# Altium schematic symbol library MCU_Intel.SchLib: 26 symbols
Pins are listed as number, name and electrical type; pins without a type are passive.

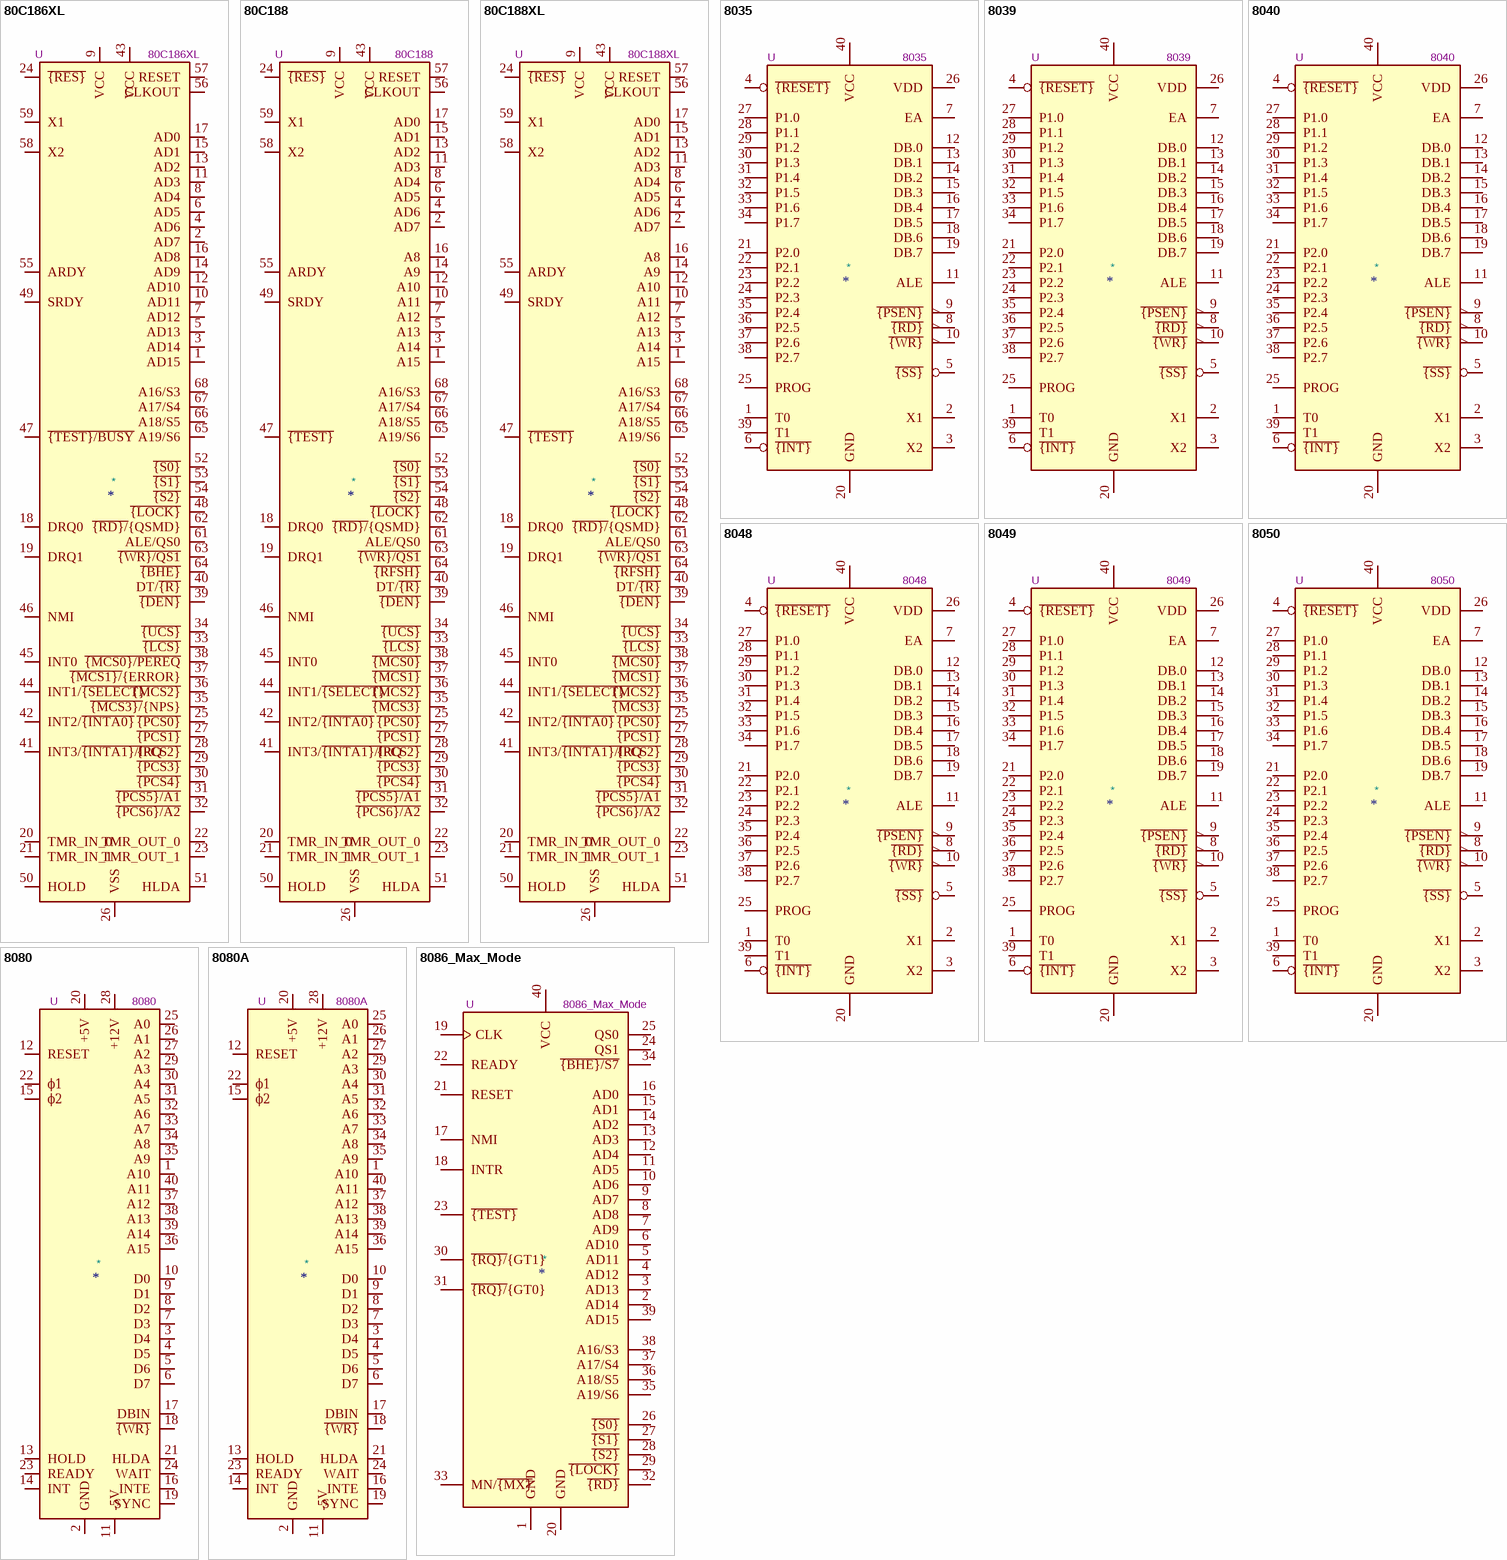
[diagram p0: symbols 80C186XL to 8086_Max_Mode]

## 80C186XL
designator *  value 80C186XL  Reference: U
ki_keywords: MPRO; ki_description: 16-Bit High-Integration Embedded Processor; ki_fp_filters: PLCC* PGA*Layout11x11*P2.54mm* LCC*; Datasheet: http://datasheets.chipdb.org/Intel/x86/8018x/datashts/27243104.PDF
pins: 1 AD15, 2 AD7, 3 AD14, 4 AD6, 5 AD13, 6 AD5, 7 AD12, 8 AD4, 9 VCC, 10 AD11, 11 AD3, 12 AD10, 13 AD2, 14 AD9, 15 AD1, 16 AD8, 17 AD0, 18 DRQ0, 19 DRQ1, 20 TMR_IN_0, 21 TMR_IN_1, 22 TMR_OUT_0, 23 TMR_OUT_1, 24 ~{{RES}}, 25 ~{{PCS0}}, 26 VSS, 27 ~{{PCS1}}, 28 ~{{PCS2}}, 29 ~{{PCS3}}, 30 ~{{PCS4}}, 31 ~{{PCS5}/A1}, 32 ~{{PCS6}/A2}, 33 ~{{LCS}}, 34 ~{{UCS}}, 35 ~{{MCS3}/}{NPS}, 36 ~{{MCS2}}, 37 ~{{MCS1}/}{ERROR}, 38 ~{{MCS0}/PEREQ}, 39 ~{{DEN}}, 40 DT/~{{R}}, 41 INT3/~{{INTA1}/IRQ}, 42 INT2/~{{INTA0}}, 43 VCC, 44 INT1/~{{SELECT}}, 45 INT0, 46 NMI, 47 ~{{TEST}/BUSY}, 48 ~{{LOCK}}, 49 SRDY, 50 HOLD, 51 HLDA, 52 ~{{S0}}, 53 ~{{S1}}, 54 ~{{S2}}, 55 ARDY, 56 CLKOUT, 57 RESET, 58 X2, 59 X1, 60 VSS hidden, 61 ALE/QS0, 62 ~{{RD}/}{QSMD}, 63 ~{{WR}/QS1}, 64 ~{{BHE}}, 65 A19/S6, 66 A18/S5, 67 A17/S4, 68 A16/S3

## 80C188
designator *  value 80C188  Reference: U
ki_keywords: MPRO; ki_description: CHMOS High-Integration 16-Bit Microprocessor; ki_fp_filters: PLCC* PGA*Layout11x11*P2.54mm* LCC*; Datasheet: http://datasheets.chipdb.org/Intel/x86/8018x/datashts/80188/intel-80c188.pdf
pins: 1 A15, 2 AD7, 3 A14, 4 AD6, 5 A13, 6 AD5, 7 A12, 8 AD4, 9 VCC, 10 A11, 11 AD3, 12 A10, 13 AD2, 14 A9, 15 AD1, 16 A8, 17 AD0, 18 DRQ0, 19 DRQ1, 20 TMR_IN_0, 21 TMR_IN_1, 22 TMR_OUT_0, 23 TMR_OUT_1, 24 ~{{RES}}, 25 ~{{PCS0}}, 26 VSS, 27 ~{{PCS1}}, 28 ~{{PCS2}}, 29 ~{{PCS3}}, 30 ~{{PCS4}}, 31 ~{{PCS5}/A1}, 32 ~{{PCS6}/A2}, 33 ~{{LCS}}, 34 ~{{UCS}}, 35 ~{{MCS3}}, 36 ~{{MCS2}}, 37 ~{{MCS1}}, 38 ~{{MCS0}}, 39 ~{{DEN}}, 40 DT/~{{R}}, 41 INT3/~{{INTA1}/IRQ}, 42 INT2/~{{INTA0}}, 43 VCC, 44 INT1/~{{SELECT}}, 45 INT0, 46 NMI, 47 ~{{TEST}}, 48 ~{{LOCK}}, 49 SRDY, 50 HOLD, 51 HLDA, 52 ~{{S0}}, 53 ~{{S1}}, 54 ~{{S2}}, 55 ARDY, 56 CLKOUT, 57 RESET, 58 X2, 59 X1, 60 VSS hidden, 61 ALE/QS0, 62 ~{{RD}/}{QSMD}, 63 ~{{WR}/QS1}, 64 ~{{RFSH}}, 65 A19/S6, 66 A18/S5, 67 A17/S4, 68 A16/S3

## 80C188XL
designator *  value 80C188XL  Reference: U
ki_keywords: MPRO; ki_description: 16-Bit High-Integration Embedded Processor; ki_fp_filters: PLCC* PGA*Layout11x11*P2.54mm* LCC*; Datasheet: http://datasheets.chipdb.org/Intel/x86/8018x/datashts/27243104.PDF
pins: 1 A15, 2 AD7, 3 A14, 4 AD6, 5 A13, 6 AD5, 7 A12, 8 AD4, 9 VCC, 10 A11, 11 AD3, 12 A10, 13 AD2, 14 A9, 15 AD1, 16 A8, 17 AD0, 18 DRQ0, 19 DRQ1, 20 TMR_IN_0, 21 TMR_IN_1, 22 TMR_OUT_0, 23 TMR_OUT_1, 24 ~{{RES}}, 25 ~{{PCS0}}, 26 VSS, 27 ~{{PCS1}}, 28 ~{{PCS2}}, 29 ~{{PCS3}}, 30 ~{{PCS4}}, 31 ~{{PCS5}/A1}, 32 ~{{PCS6}/A2}, 33 ~{{LCS}}, 34 ~{{UCS}}, 35 ~{{MCS3}}, 36 ~{{MCS2}}, 37 ~{{MCS1}}, 38 ~{{MCS0}}, 39 ~{{DEN}}, 40 DT/~{{R}}, 41 INT3/~{{INTA1}/IRQ}, 42 INT2/~{{INTA0}}, 43 VCC, 44 INT1/~{{SELECT}}, 45 INT0, 46 NMI, 47 ~{{TEST}}, 48 ~{{LOCK}}, 49 SRDY, 50 HOLD, 51 HLDA, 52 ~{{S0}}, 53 ~{{S1}}, 54 ~{{S2}}, 55 ARDY, 56 CLKOUT, 57 RESET, 58 X2, 59 X1, 60 VSS hidden, 61 ALE/QS0, 62 ~{{RD}/}{QSMD}, 63 ~{{WR}/QS1}, 64 ~{{RFSH}}, 65 A19/S6, 66 A18/S5, 67 A17/S4, 68 A16/S3

## 8035
designator *  value 8035  Reference: U
ki_keywords: MCS-48 uC Microcontroller; ki_description: MCS-48 8-bit Microcontroller, No (EP)ROM, 64B RAM, DIP-40; ki_fp_filters: DIP* PDIP*
pins: 1 T0, 2 X1, 3 X2, 4 ~{{RESET}}, 5 ~{{SS}}, 6 ~{{INT}}, 7 EA, 8 ~{{RD}}, 9 ~{{PSEN}}, 10 ~{{WR}}, 11 ALE, 12 DB.0, 13 DB.1, 14 DB.2, 15 DB.3, 16 DB.4, 17 DB.5, 18 DB.6, 19 DB.7, 20 GND, 21 P2.0, 22 P2.1, 23 P2.2, 24 P2.3, 25 PROG, 26 VDD, 27 P1.0, 28 P1.1, 29 P1.2, 30 P1.3, 31 P1.4, 32 P1.5, 33 P1.6, 34 P1.7, 35 P2.4, 36 P2.5, 37 P2.6, 38 P2.7, 39 T1, 40 VCC

## 8039
designator *  value 8039  Reference: U
ki_keywords: MCS-48 uC Microcontroller; ki_description: MCS-48 8-bit Microcontroller, No (EP)ROM, 128B RAM, DIP-40; ki_fp_filters: DIP* PDIP*
pins: 1 T0, 2 X1, 3 X2, 4 ~{{RESET}}, 5 ~{{SS}}, 6 ~{{INT}}, 7 EA, 8 ~{{RD}}, 9 ~{{PSEN}}, 10 ~{{WR}}, 11 ALE, 12 DB.0, 13 DB.1, 14 DB.2, 15 DB.3, 16 DB.4, 17 DB.5, 18 DB.6, 19 DB.7, 20 GND, 21 P2.0, 22 P2.1, 23 P2.2, 24 P2.3, 25 PROG, 26 VDD, 27 P1.0, 28 P1.1, 29 P1.2, 30 P1.3, 31 P1.4, 32 P1.5, 33 P1.6, 34 P1.7, 35 P2.4, 36 P2.5, 37 P2.6, 38 P2.7, 39 T1, 40 VCC

## 8040
designator *  value 8040  Reference: U
ki_keywords: MCS-48 uC Microcontroller; ki_description: MCS-48 8-bit Microcontroller, No (EP)ROM, 256B RAM, DIP-40; ki_fp_filters: DIP* PDIP*
pins: 1 T0, 2 X1, 3 X2, 4 ~{{RESET}}, 5 ~{{SS}}, 6 ~{{INT}}, 7 EA, 8 ~{{RD}}, 9 ~{{PSEN}}, 10 ~{{WR}}, 11 ALE, 12 DB.0, 13 DB.1, 14 DB.2, 15 DB.3, 16 DB.4, 17 DB.5, 18 DB.6, 19 DB.7, 20 GND, 21 P2.0, 22 P2.1, 23 P2.2, 24 P2.3, 25 PROG, 26 VDD, 27 P1.0, 28 P1.1, 29 P1.2, 30 P1.3, 31 P1.4, 32 P1.5, 33 P1.6, 34 P1.7, 35 P2.4, 36 P2.5, 37 P2.6, 38 P2.7, 39 T1, 40 VCC

## 8048
designator *  value 8048  Reference: U
ki_keywords: MCS-48 uC Microcontroller; ki_description: MCS-48 8-bit Microcontroller, 1KB Mask ROM, 64B RAM, DIP-40; ki_fp_filters: DIP* PDIP*
pins: 1 T0, 2 X1, 3 X2, 4 ~{{RESET}}, 5 ~{{SS}}, 6 ~{{INT}}, 7 EA, 8 ~{{RD}}, 9 ~{{PSEN}}, 10 ~{{WR}}, 11 ALE, 12 DB.0, 13 DB.1, 14 DB.2, 15 DB.3, 16 DB.4, 17 DB.5, 18 DB.6, 19 DB.7, 20 GND, 21 P2.0, 22 P2.1, 23 P2.2, 24 P2.3, 25 PROG, 26 VDD, 27 P1.0, 28 P1.1, 29 P1.2, 30 P1.3, 31 P1.4, 32 P1.5, 33 P1.6, 34 P1.7, 35 P2.4, 36 P2.5, 37 P2.6, 38 P2.7, 39 T1, 40 VCC

## 8049
designator *  value 8049  Reference: U
ki_keywords: MCS-48 uC Microcontroller; ki_description: MCS-48 8-bit Microcontroller, 2KB Mask ROM, 128B RAM, DIP-40; ki_fp_filters: DIP* PDIP*
pins: 1 T0, 2 X1, 3 X2, 4 ~{{RESET}}, 5 ~{{SS}}, 6 ~{{INT}}, 7 EA, 8 ~{{RD}}, 9 ~{{PSEN}}, 10 ~{{WR}}, 11 ALE, 12 DB.0, 13 DB.1, 14 DB.2, 15 DB.3, 16 DB.4, 17 DB.5, 18 DB.6, 19 DB.7, 20 GND, 21 P2.0, 22 P2.1, 23 P2.2, 24 P2.3, 25 PROG, 26 VDD, 27 P1.0, 28 P1.1, 29 P1.2, 30 P1.3, 31 P1.4, 32 P1.5, 33 P1.6, 34 P1.7, 35 P2.4, 36 P2.5, 37 P2.6, 38 P2.7, 39 T1, 40 VCC

## 8050
designator *  value 8050  Reference: U
ki_keywords: MCS-48 uC Microcontroller; ki_description: MCS-48 8-bit Microcontroller, 4KB Mask ROM, 256B RAM, DIP-40; ki_fp_filters: DIP* PDIP*
pins: 1 T0, 2 X1, 3 X2, 4 ~{{RESET}}, 5 ~{{SS}}, 6 ~{{INT}}, 7 EA, 8 ~{{RD}}, 9 ~{{PSEN}}, 10 ~{{WR}}, 11 ALE, 12 DB.0, 13 DB.1, 14 DB.2, 15 DB.3, 16 DB.4, 17 DB.5, 18 DB.6, 19 DB.7, 20 GND, 21 P2.0, 22 P2.1, 23 P2.2, 24 P2.3, 25 PROG, 26 VDD, 27 P1.0, 28 P1.1, 29 P1.2, 30 P1.3, 31 P1.4, 32 P1.5, 33 P1.6, 34 P1.7, 35 P2.4, 36 P2.5, 37 P2.6, 38 P2.7, 39 T1, 40 VCC

## 8080
designator *  value 8080  Reference: U
ki_keywords: cpu mpu microprocessor; ki_description: 8-bit N-channel Microprocessor, DIP-40; ki_fp_filters: DIP*W15.24*; Footprint: Package_DIP:DIP-40_W15.24mm; Datasheet: http://datasheets.chipdb.org/Intel/MCS-80/intel-8080.pdf
pins: 1 A10, 2 GND, 3 D4, 4 D5, 5 D6, 6 D7, 7 D3, 8 D2, 9 D1, 10 D0, 11 -5V, 12 RESET, 13 HOLD, 14 INT, 15 ϕ2, 16 INTE, 17 DBIN, 18 ~{{WR}}, 19 SYNC, 20 +5V, 21 HLDA, 22 ϕ1, 23 READY, 24 WAIT, 25 A0, 26 A1, 27 A2, 28 +12V, 29 A3, 30 A4, 31 A5, 32 A6, 33 A7, 34 A8, 35 A9, 36 A15, 37 A12, 38 A13, 39 A14, 40 A11

## 8080A
designator *  value 8080A  Reference: U
ki_keywords: cpu mpu microprocessor; ki_description: 8-bit N-channel Microprocessor, DIP-40; ki_fp_filters: DIP*W15.24*; Footprint: Package_DIP:DIP-40_W15.24mm; Datasheet: http://datasheets.chipdb.org/Intel/MCS-80/intel-8080.pdf
pins: 1 A10, 2 GND, 3 D4, 4 D5, 5 D6, 6 D7, 7 D3, 8 D2, 9 D1, 10 D0, 11 -5V, 12 RESET, 13 HOLD, 14 INT, 15 ϕ2, 16 INTE, 17 DBIN, 18 ~{{WR}}, 19 SYNC, 20 +5V, 21 HLDA, 22 ϕ1, 23 READY, 24 WAIT, 25 A0, 26 A1, 27 A2, 28 +12V, 29 A3, 30 A4, 31 A5, 32 A6, 33 A7, 34 A8, 35 A9, 36 A15, 37 A12, 38 A13, 39 A14, 40 A11

## 8086_Max_Mode
designator *  value 8086_Max_Mode  Reference: U
ki_keywords: MPRO; ki_description: 8086 (maximum mode), 16-Bit HMOS Microprocessor, PDIP-40; ki_fp_filters: DIP*W15.24mm*; Footprint: Package_DIP:DIP-40_W15.24mm; Datasheet: http://datasheets.chipdb.org/Intel/x86/808x/datashts/8086/231455-006.pdf
pins: 1 GND, 2 AD14, 3 AD13, 4 AD12, 5 AD11, 6 AD10, 7 AD9, 8 AD8, 9 AD7, 10 AD6, 11 AD5, 12 AD4, 13 AD3, 14 AD2, 15 AD1, 16 AD0, 17 NMI, 18 INTR, 19 CLK, 20 GND, 21 RESET, 22 READY, 23 ~{{TEST}}, 24 QS1, 25 QS0, 26 ~{{S0}}, 27 ~{{S1}}, 28 ~{{S2}}, 29 ~{{LOCK}}, 30 ~{{RQ}/}{GT1}, 31 ~{{RQ}/}{GT0}, 32 ~{{RD}}, 33 MN/~{{MX}}, 34 ~{{BHE}/S7}, 35 A19/S6, 36 A18/S5, 37 A17/S4, 38 A16/S3, 39 AD15, 40 VCC

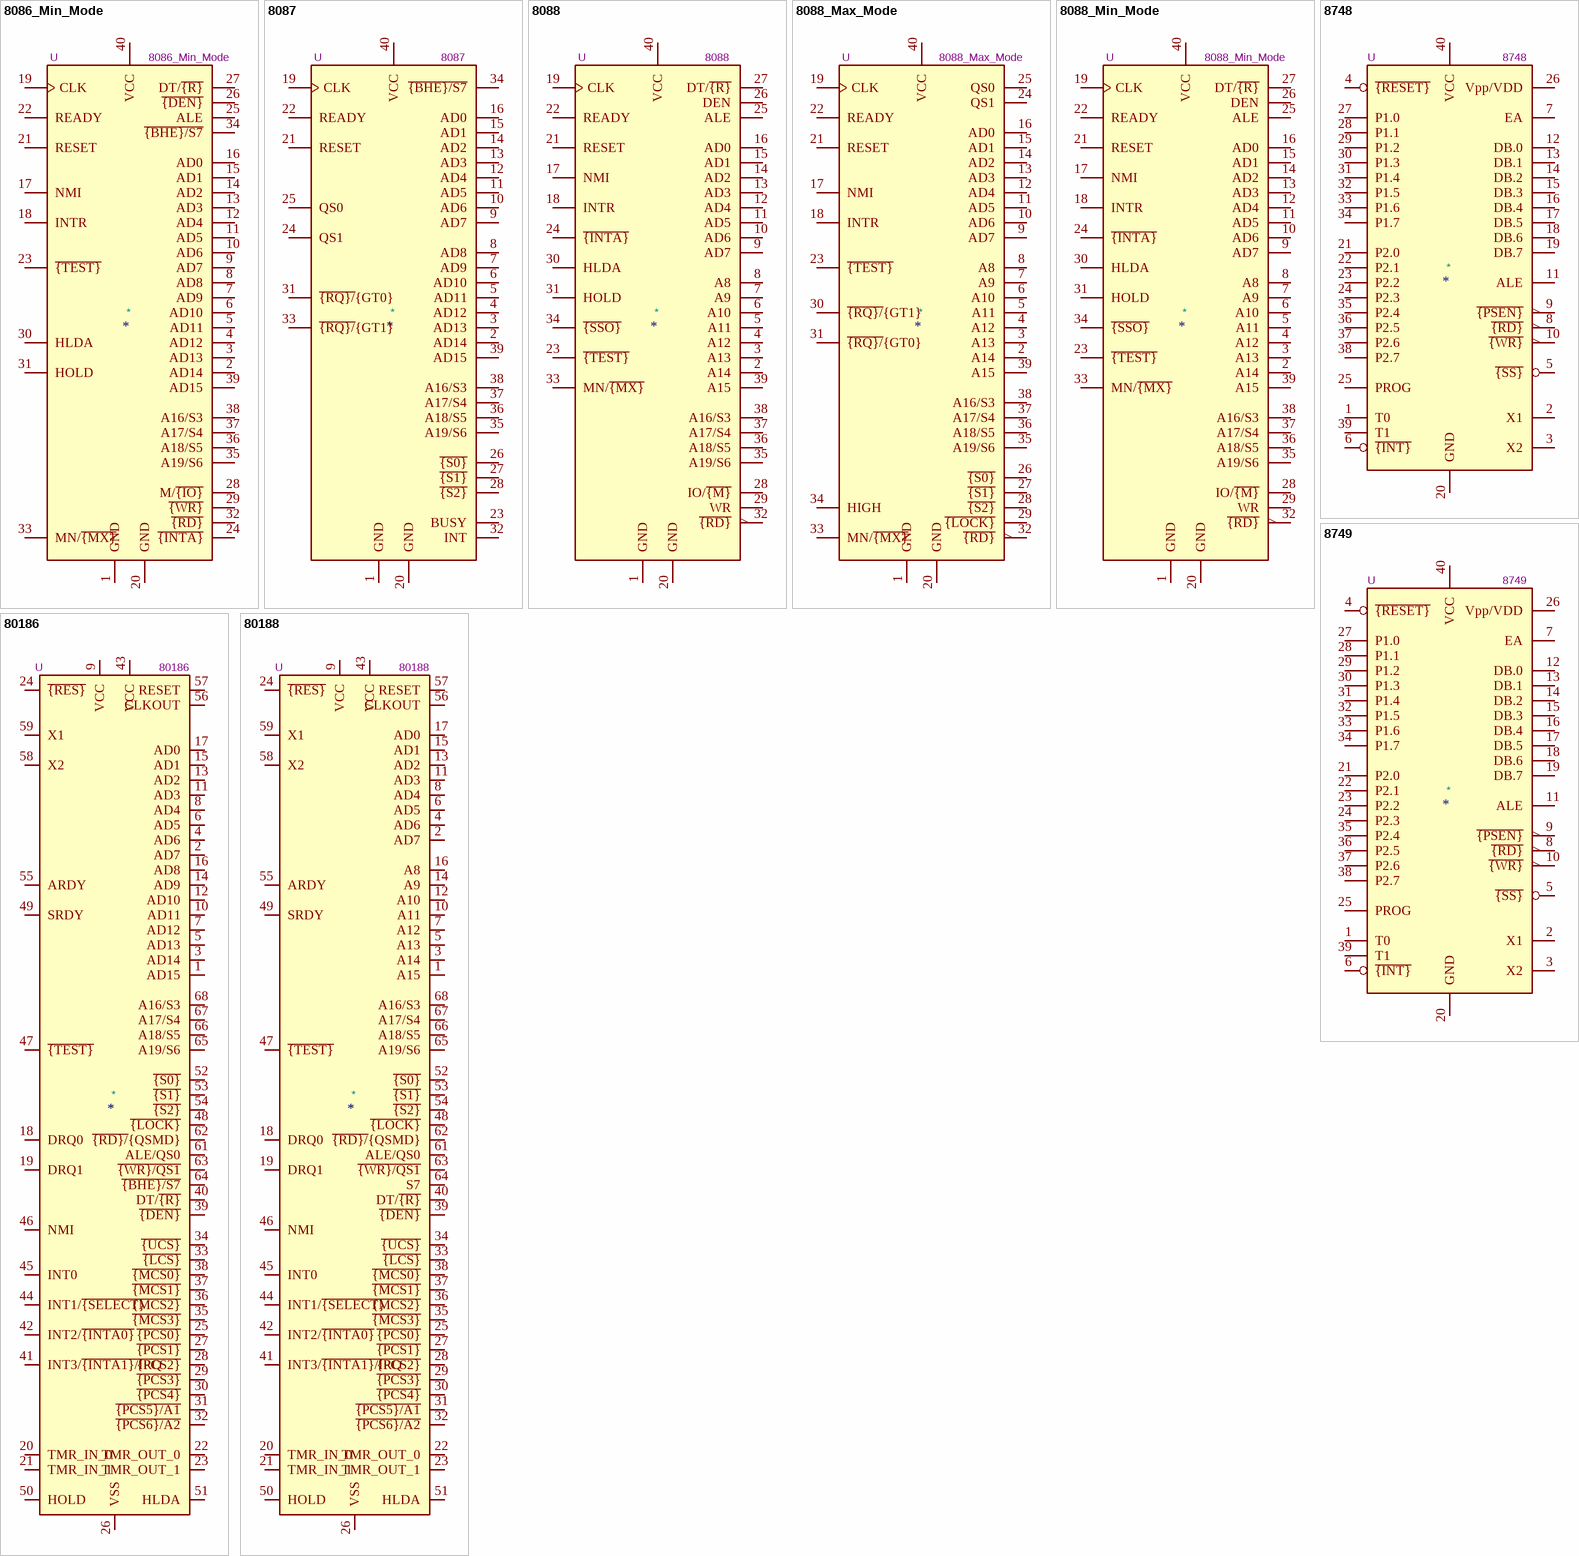
[diagram p1: symbols 8086_Min_Mode to 80188]

## 8086_Min_Mode
designator *  value 8086_Min_Mode  Reference: U
ki_keywords: MPRO; ki_description: 8086 (minimum mode), 16-Bit HMOS Microprocessor, PDIP-40; ki_fp_filters: DIP*W15.24mm*; Footprint: Package_DIP:DIP-40_W15.24mm; Datasheet: http://datasheets.chipdb.org/Intel/x86/808x/datashts/8086/231455-006.pdf
pins: 1 GND, 2 AD14, 3 AD13, 4 AD12, 5 AD11, 6 AD10, 7 AD9, 8 AD8, 9 AD7, 10 AD6, 11 AD5, 12 AD4, 13 AD3, 14 AD2, 15 AD1, 16 AD0, 17 NMI, 18 INTR, 19 CLK, 20 GND, 21 RESET, 22 READY, 23 ~{{TEST}}, 24 ~{{INTA}}, 25 ALE, 26 ~{{DEN}}, 27 DT/~{{R}}, 28 M/~{{IO}}, 29 ~{{WR}}, 30 HLDA, 31 HOLD, 32 ~{{RD}}, 33 MN/~{{MX}}, 34 ~{{BHE}/S7}, 35 A19/S6, 36 A18/S5, 37 A17/S4, 38 A16/S3, 39 AD15, 40 VCC

## 8087
designator *  value 8087  Reference: U
ki_keywords: FPU; ki_description: Math Coprocessor for Intel 8086/8088/80186/80188 microprocessors, PDIP-40; ki_fp_filters: DIP*W15.24mm*; Footprint: Package_DIP:DIP-40_W15.24mm; Datasheet: http://datasheets.chipdb.org/Intel/x86/808x/datashts/8087/205835-007.pdf
pins: 1 GND, 2 AD14, 3 AD13, 4 AD12, 5 AD11, 6 AD10, 7 AD9, 8 AD8, 9 AD7, 10 AD6, 11 AD5, 12 AD4, 13 AD3, 14 AD2, 15 AD1, 16 AD0, 17 NC hidden, 18 NC hidden, 19 CLK, 20 GND, 21 RESET, 22 READY, 23 BUSY, 24 QS1, 25 QS0, 26 ~{{S0}}, 27 ~{{S1}}, 28 ~{{S2}}, 29 NC hidden, 30 NC hidden, 31 ~{{RQ}/}{GT0}, 32 INT, 33 ~{{RQ}/}{GT1}, 34 ~{{BHE}/S7}, 35 A19/S6, 36 A18/S5, 37 A17/S4, 38 A16/S3, 39 AD15, 40 VCC

## 8088
designator *  value 8088  Reference: U
ki_keywords: MPRO; ki_description: 8088 (minimum mode), 8-Bit HMOS Microprocessor, PDIP-40; ki_fp_filters: DIP*W15.24mm*; Footprint: Package_DIP:DIP-40_W15.24mm; Datasheet: http://datasheets.chipdb.org/Intel/x86/808x/datashts/8088/231456-006.pdf
pins: 1 GND, 2 A14, 3 A13, 4 A12, 5 A11, 6 A10, 7 A9, 8 A8, 9 AD7, 10 AD6, 11 AD5, 12 AD4, 13 AD3, 14 AD2, 15 AD1, 16 AD0, 17 NMI, 18 INTR, 19 CLK, 20 GND, 21 RESET, 22 READY, 23 ~{{TEST}}, 24 ~{{INTA}}, 25 ALE, 26 DEN, 27 DT/~{{R}}, 28 IO/~{{M}}, 29 WR, 30 HLDA, 31 HOLD, 32 ~{{RD}}, 33 MN/~{{MX}}, 34 ~{{SSO}}, 35 A19/S6, 36 A18/S5, 37 A17/S4, 38 A16/S3, 39 A15, 40 VCC

## 8088_Max_Mode
designator *  value 8088_Max_Mode  Reference: U
ki_keywords: MPRO; ki_description: 8088 (maximum mode), 8-Bit HMOS Microprocessor, PDIP-40; ki_fp_filters: DIP*W15.24mm*; Footprint: Package_DIP:DIP-40_W15.24mm; Datasheet: http://datasheets.chipdb.org/Intel/x86/808x/datashts/8088/231456-006.pdf
pins: 1 GND, 2 A14, 3 A13, 4 A12, 5 A11, 6 A10, 7 A9, 8 A8, 9 AD7, 10 AD6, 11 AD5, 12 AD4, 13 AD3, 14 AD2, 15 AD1, 16 AD0, 17 NMI, 18 INTR, 19 CLK, 20 GND, 21 RESET, 22 READY, 23 ~{{TEST}}, 24 QS1, 25 QS0, 26 ~{{S0}}, 27 ~{{S1}}, 28 ~{{S2}}, 29 ~{{LOCK}}, 30 ~{{RQ}/}{GT1}, 31 ~{{RQ}/}{GT0}, 32 ~{{RD}}, 33 MN/~{{MX}}, 34 HIGH, 35 A19/S6, 36 A18/S5, 37 A17/S4, 38 A16/S3, 39 A15, 40 VCC

## 8088_Min_Mode
designator *  value 8088_Min_Mode  Reference: U
ki_keywords: MPRO; ki_description: 8088 (minimum mode), 8-Bit HMOS Microprocessor, PDIP-40; ki_fp_filters: DIP*W15.24mm*; Footprint: Package_DIP:DIP-40_W15.24mm; Datasheet: http://datasheets.chipdb.org/Intel/x86/808x/datashts/8088/231456-006.pdf
pins: 1 GND, 2 A14, 3 A13, 4 A12, 5 A11, 6 A10, 7 A9, 8 A8, 9 AD7, 10 AD6, 11 AD5, 12 AD4, 13 AD3, 14 AD2, 15 AD1, 16 AD0, 17 NMI, 18 INTR, 19 CLK, 20 GND, 21 RESET, 22 READY, 23 ~{{TEST}}, 24 ~{{INTA}}, 25 ALE, 26 DEN, 27 DT/~{{R}}, 28 IO/~{{M}}, 29 WR, 30 HLDA, 31 HOLD, 32 ~{{RD}}, 33 MN/~{{MX}}, 34 ~{{SSO}}, 35 A19/S6, 36 A18/S5, 37 A17/S4, 38 A16/S3, 39 A15, 40 VCC

## 8748
designator *  value 8748  Reference: U
ki_keywords: MCS-48 uC Microcontroller; ki_description: i8748, MCS-48 8-bit Microcontroller with Internal EPROM, 1KB EPROM, 64B RAM, DIP-40; ki_fp_filters: DIP* PDIP*
pins: 1 T0, 2 X1, 3 X2, 4 ~{{RESET}}, 5 ~{{SS}}, 6 ~{{INT}}, 7 EA, 8 ~{{RD}}, 9 ~{{PSEN}}, 10 ~{{WR}}, 11 ALE, 12 DB.0, 13 DB.1, 14 DB.2, 15 DB.3, 16 DB.4, 17 DB.5, 18 DB.6, 19 DB.7, 20 GND, 21 P2.0, 22 P2.1, 23 P2.2, 24 P2.3, 25 PROG, 26 Vpp/VDD, 27 P1.0, 28 P1.1, 29 P1.2, 30 P1.3, 31 P1.4, 32 P1.5, 33 P1.6, 34 P1.7, 35 P2.4, 36 P2.5, 37 P2.6, 38 P2.7, 39 T1, 40 VCC

## 8749
designator *  value 8749  Reference: U
ki_keywords: MCS-48 uC Microcontroller; ki_description: i8748, MCS-48 8-bit Microcontroller with Internal EPROM, 2KB EPROM, 128B RAM, DIP-40; ki_fp_filters: DIP* PDIP*
pins: 1 T0, 2 X1, 3 X2, 4 ~{{RESET}}, 5 ~{{SS}}, 6 ~{{INT}}, 7 EA, 8 ~{{RD}}, 9 ~{{PSEN}}, 10 ~{{WR}}, 11 ALE, 12 DB.0, 13 DB.1, 14 DB.2, 15 DB.3, 16 DB.4, 17 DB.5, 18 DB.6, 19 DB.7, 20 GND, 21 P2.0, 22 P2.1, 23 P2.2, 24 P2.3, 25 PROG, 26 Vpp/VDD, 27 P1.0, 28 P1.1, 29 P1.2, 30 P1.3, 31 P1.4, 32 P1.5, 33 P1.6, 34 P1.7, 35 P2.4, 36 P2.5, 37 P2.6, 38 P2.7, 39 T1, 40 VCC

## 80186
designator *  value 80186  Reference: U
ki_keywords: MPRO; ki_description: High-Integration 16-Bit Microprocessor; ki_fp_filters: PLCC* PGA*Layout11x11*P2.54mm* LCC*; Datasheet: http://datasheets.chipdb.org/Intel/x86/8018x/datashts/27243002.PDF
pins: 1 AD15, 2 AD7, 3 AD14, 4 AD6, 5 AD13, 6 AD5, 7 AD12, 8 AD4, 9 VCC, 10 AD11, 11 AD3, 12 AD10, 13 AD2, 14 AD9, 15 AD1, 16 AD8, 17 AD0, 18 DRQ0, 19 DRQ1, 20 TMR_IN_0, 21 TMR_IN_1, 22 TMR_OUT_0, 23 TMR_OUT_1, 24 ~{{RES}}, 25 ~{{PCS0}}, 26 VSS, 27 ~{{PCS1}}, 28 ~{{PCS2}}, 29 ~{{PCS3}}, 30 ~{{PCS4}}, 31 ~{{PCS5}/A1}, 32 ~{{PCS6}/A2}, 33 ~{{LCS}}, 34 ~{{UCS}}, 35 ~{{MCS3}}, 36 ~{{MCS2}}, 37 ~{{MCS1}}, 38 ~{{MCS0}}, 39 ~{{DEN}}, 40 DT/~{{R}}, 41 INT3/~{{INTA1}/IRQ}, 42 INT2/~{{INTA0}}, 43 VCC, 44 INT1/~{{SELECT}}, 45 INT0, 46 NMI, 47 ~{{TEST}}, 48 ~{{LOCK}}, 49 SRDY, 50 HOLD, 51 HLDA, 52 ~{{S0}}, 53 ~{{S1}}, 54 ~{{S2}}, 55 ARDY, 56 CLKOUT, 57 RESET, 58 X2, 59 X1, 60 VSS hidden, 61 ALE/QS0, 62 ~{{RD}/}{QSMD}, 63 ~{{WR}/QS1}, 64 ~{{BHE}/S7}, 65 A19/S6, 66 A18/S5, 67 A17/S4, 68 A16/S3

## 80188
designator *  value 80188  Reference: U
ki_keywords: MPRO; ki_description: High-Integration 16-Bit Microprocessor; ki_fp_filters: PLCC* PGA*Layout11x11*P2.54mm* LCC*; Datasheet: http://datasheets.chipdb.org/Intel/x86/8018x/datashts/27243002.PDF
pins: 1 A15, 2 AD7, 3 A14, 4 AD6, 5 A13, 6 AD5, 7 A12, 8 AD4, 9 VCC, 10 A11, 11 AD3, 12 A10, 13 AD2, 14 A9, 15 AD1, 16 A8, 17 AD0, 18 DRQ0, 19 DRQ1, 20 TMR_IN_0, 21 TMR_IN_1, 22 TMR_OUT_0, 23 TMR_OUT_1, 24 ~{{RES}}, 25 ~{{PCS0}}, 26 VSS, 27 ~{{PCS1}}, 28 ~{{PCS2}}, 29 ~{{PCS3}}, 30 ~{{PCS4}}, 31 ~{{PCS5}/A1}, 32 ~{{PCS6}/A2}, 33 ~{{LCS}}, 34 ~{{UCS}}, 35 ~{{MCS3}}, 36 ~{{MCS2}}, 37 ~{{MCS1}}, 38 ~{{MCS0}}, 39 ~{{DEN}}, 40 DT/~{{R}}, 41 INT3/~{{INTA1}/IRQ}, 42 INT2/~{{INTA0}}, 43 VCC, 44 INT1/~{{SELECT}}, 45 INT0, 46 NMI, 47 ~{{TEST}}, 48 ~{{LOCK}}, 49 SRDY, 50 HOLD, 51 HLDA, 52 ~{{S0}}, 53 ~{{S1}}, 54 ~{{S2}}, 55 ARDY, 56 CLKOUT, 57 RESET, 58 X2, 59 X1, 60 VSS hidden, 61 ALE/QS0, 62 ~{{RD}/}{QSMD}, 63 ~{{WR}/QS1}, 64 S7, 65 A19/S6, 66 A18/S5, 67 A17/S4, 68 A16/S3

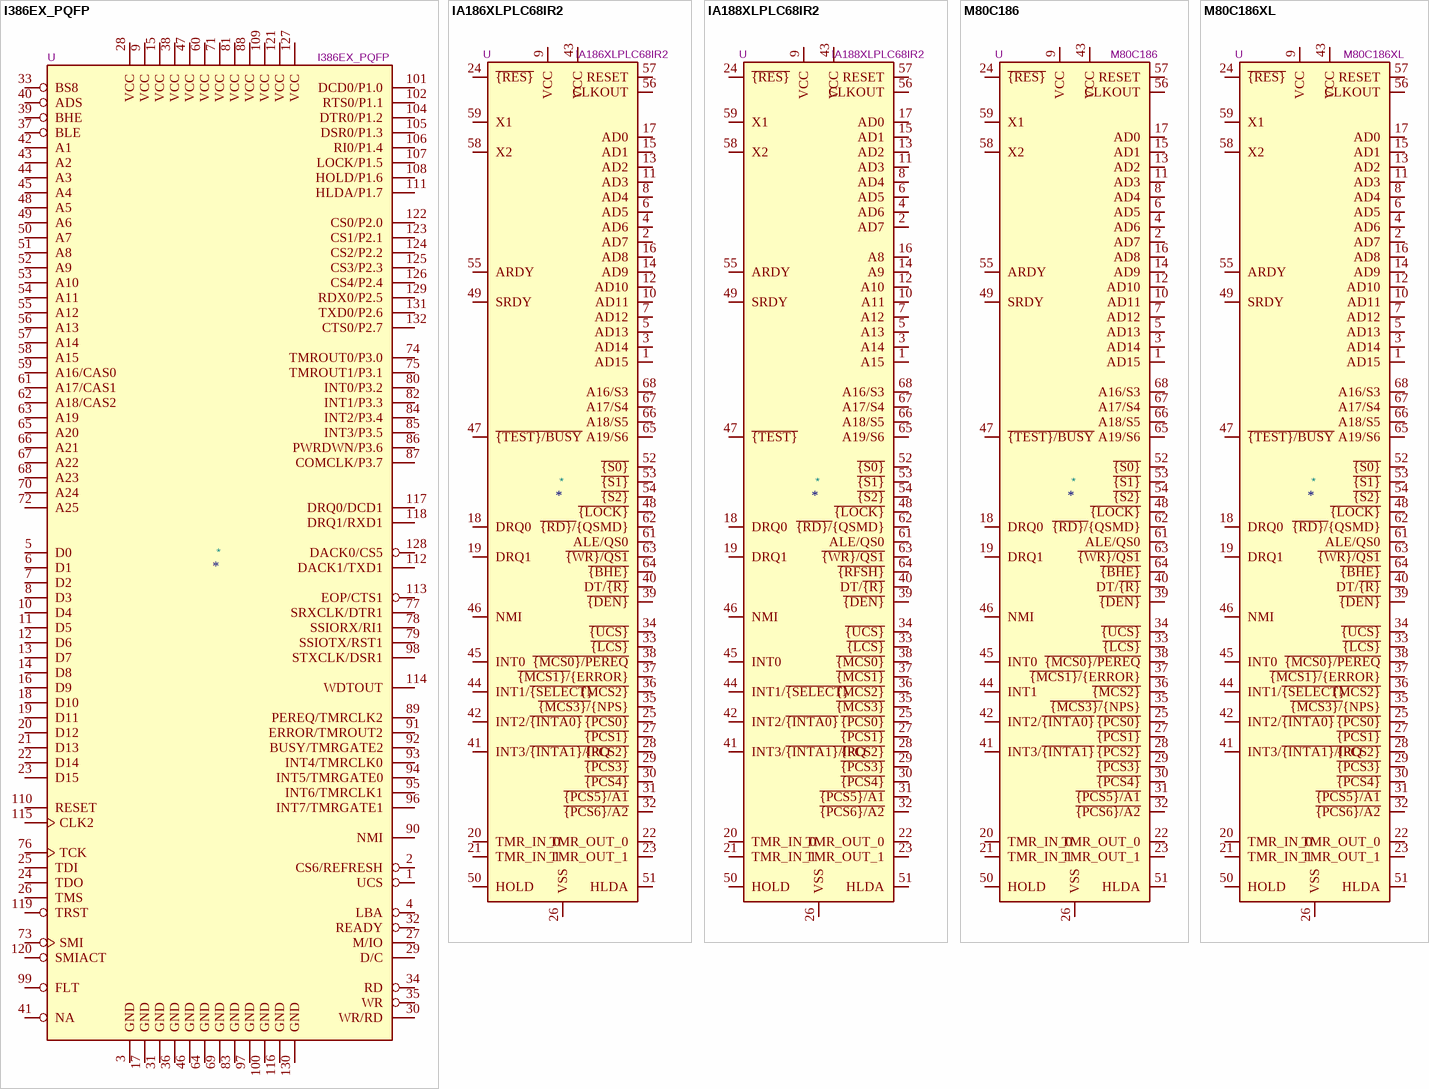
[diagram p2: symbols I386EX_PQFP to M80C186XL]

## I386EX_PQFP
designator *  value I386EX_PQFP  Reference: U
ki_keywords: MPRO; ki_description: Intel I386EX Embedded microprocessor, PQFP-132; ki_fp_filters: PQFP*
pins: 1 UCS, 2 CS6/REFRESH, 3 GND, 4 LBA, 5 D0, 6 D1, 7 D2, 8 D3, 9 VCC, 10 D4, 11 D5, 12 D6, 13 D7, 14 D8, 15 VCC, 16 D9, 17 GND, 18 D10, 19 D11, 20 D12, 21 D13, 22 D14, 23 D15, 24 TDO, 25 TDI, 26 TMS, 27 M/IO, 28 VCC, 29 D/C, 30 WR/RD, 31 GND, 32 READY, 33 BS8, 34 RD, 35 WR, 36 GND, 37 BLE, 38 VCC, 39 BHE, 40 ADS, 41 NA, 42 A1, 43 A2, 44 A3, 45 A4, 46 GND, 47 VCC, 48 A5, 49 A6, 50 A7, 51 A8, 52 A9, 53 A10, 54 A11, 55 A12, 56 A13, 57 A14, 58 A15, 59 A16/CAS0, 60 VCC, 61 A17/CAS1, 62 A18/CAS2, 63 A19, 64 GND, 65 A20, 66 A21, 67 A22, 68 A23, 69 GND, 70 A24, 71 VCC, 72 A25, 73 SMI, 74 TMROUT0/P3.0, 75 TMROUT1/P3.1, 76 TCK, 77 SRXCLK/DTR1, 78 SSIORX/RI1, 79 SSIOTX/RST1, 80 INT0/P3.2, 81 VCC, 82 INT1/P3.3, 83 GND, 84 INT2/P3.4, 85 INT3/P3.5, 86 PWRDWN/P3.6, 87 COMCLK/P3.7, 88 VCC, 89 PEREQ/TMRCLK2, 90 NMI, 91 ERROR/TMROUT2, 92 BUSY/TMRGATE2, 93 INT4/TMRCLK0, 94 INT5/TMRGATE0, 95 INT6/TMRCLK1, 96 INT7/TMRGATE1, 97 GND, 98 STXCLK/DSR1, 99 FLT, 100 GND, 101 DCD0/P1.0, 102 RTS0/P1.1, 104 DTR0/P1.2, 105 DSR0/P1.3, 106 RI0/P1.4, 107 LOCK/P1.5, 108 HOLD/P1.6, 109 VCC, 110 RESET, 111 HLDA/P1.7, 112 DACK1/TXD1, 113 EOP/CTS1, 114 WDTOUT, 115 CLK2, 116 GND, 117 DRQ0/DCD1, 118 DRQ1/RXD1, 119 TRST, 120 SMIACT, 121 VCC, 122 CS0/P2.0, 123 CS1/P2.1, 124 CS2/P2.2, 125 CS3/P2.3, 126 CS4/P2.4, 127 VCC, 128 DACK0/CS5, 129 RDX0/P2.5, 130 GND, 131 TXD0/P2.6, 132 CTS0/P2.7

## IA186XLPLC68IR2
designator *  value IA186XLPLC68IR2  Reference: U
ki_keywords: MPRO; ki_description: MCU Replacement for Intel 80C186XL; ki_fp_filters: PLCC* PGA*Layout11x11*P2.54mm* LCC*; Datasheet: http://www.innovasic.com/upload/products/Innovasic_IA186XL_IA188XL_Data_Sheet_20110706_2.pdf
pins: 1 AD15, 2 AD7, 3 AD14, 4 AD6, 5 AD13, 6 AD5, 7 AD12, 8 AD4, 9 VCC, 10 AD11, 11 AD3, 12 AD10, 13 AD2, 14 AD9, 15 AD1, 16 AD8, 17 AD0, 18 DRQ0, 19 DRQ1, 20 TMR_IN_0, 21 TMR_IN_1, 22 TMR_OUT_0, 23 TMR_OUT_1, 24 ~{{RES}}, 25 ~{{PCS0}}, 26 VSS, 27 ~{{PCS1}}, 28 ~{{PCS2}}, 29 ~{{PCS3}}, 30 ~{{PCS4}}, 31 ~{{PCS5}/A1}, 32 ~{{PCS6}/A2}, 33 ~{{LCS}}, 34 ~{{UCS}}, 35 ~{{MCS3}/}{NPS}, 36 ~{{MCS2}}, 37 ~{{MCS1}/}{ERROR}, 38 ~{{MCS0}/PEREQ}, 39 ~{{DEN}}, 40 DT/~{{R}}, 41 INT3/~{{INTA1}/IRQ}, 42 INT2/~{{INTA0}}, 43 VCC, 44 INT1/~{{SELECT}}, 45 INT0, 46 NMI, 47 ~{{TEST}/BUSY}, 48 ~{{LOCK}}, 49 SRDY, 50 HOLD, 51 HLDA, 52 ~{{S0}}, 53 ~{{S1}}, 54 ~{{S2}}, 55 ARDY, 56 CLKOUT, 57 RESET, 58 X2, 59 X1, 60 VSS hidden, 61 ALE/QS0, 62 ~{{RD}/}{QSMD}, 63 ~{{WR}/QS1}, 64 ~{{BHE}}, 65 A19/S6, 66 A18/S5, 67 A17/S4, 68 A16/S3

## IA188XLPLC68IR2
designator *  value IA188XLPLC68IR2  Reference: U
ki_keywords: MPRO; ki_description: MCU Replacement for Intel 80C188XL; ki_fp_filters: PLCC* PGA*Layout11x11*P2.54mm* LCC*; Datasheet: http://www.innovasic.com/upload/products/Innovasic_IA186XL_IA188XL_Data_Sheet_20110706_2.pdf
pins: 1 A15, 2 AD7, 3 A14, 4 AD6, 5 A13, 6 AD5, 7 A12, 8 AD4, 9 VCC, 10 A11, 11 AD3, 12 A10, 13 AD2, 14 A9, 15 AD1, 16 A8, 17 AD0, 18 DRQ0, 19 DRQ1, 20 TMR_IN_0, 21 TMR_IN_1, 22 TMR_OUT_0, 23 TMR_OUT_1, 24 ~{{RES}}, 25 ~{{PCS0}}, 26 VSS, 27 ~{{PCS1}}, 28 ~{{PCS2}}, 29 ~{{PCS3}}, 30 ~{{PCS4}}, 31 ~{{PCS5}/A1}, 32 ~{{PCS6}/A2}, 33 ~{{LCS}}, 34 ~{{UCS}}, 35 ~{{MCS3}}, 36 ~{{MCS2}}, 37 ~{{MCS1}}, 38 ~{{MCS0}}, 39 ~{{DEN}}, 40 DT/~{{R}}, 41 INT3/~{{INTA1}/IRQ}, 42 INT2/~{{INTA0}}, 43 VCC, 44 INT1/~{{SELECT}}, 45 INT0, 46 NMI, 47 ~{{TEST}}, 48 ~{{LOCK}}, 49 SRDY, 50 HOLD, 51 HLDA, 52 ~{{S0}}, 53 ~{{S1}}, 54 ~{{S2}}, 55 ARDY, 56 CLKOUT, 57 RESET, 58 X2, 59 X1, 60 VSS hidden, 61 ALE/QS0, 62 ~{{RD}/}{QSMD}, 63 ~{{WR}/QS1}, 64 ~{{RFSH}}, 65 A19/S6, 66 A18/S5, 67 A17/S4, 68 A16/S3

## M80C186
designator *  value M80C186  Reference: U
ki_keywords: MPRO; ki_description: CHMOS High-Integration 16-Bit Microprocessor; ki_fp_filters: PLCC* PGA*Layout11x11*P2.54mm* LCC*; Datasheet: http://datasheets.chipdb.org/Intel/x86/8018x/datashts/80186/27050008.PDF
pins: 1 AD15, 2 AD7, 3 AD14, 4 AD6, 5 AD13, 6 AD5, 7 AD12, 8 AD4, 9 VCC, 10 AD11, 11 AD3, 12 AD10, 13 AD2, 14 AD9, 15 AD1, 16 AD8, 17 AD0, 18 DRQ0, 19 DRQ1, 20 TMR_IN_0, 21 TMR_IN_1, 22 TMR_OUT_0, 23 TMR_OUT_1, 24 ~{{RES}}, 25 ~{{PCS0}}, 26 VSS, 27 ~{{PCS1}}, 28 ~{{PCS2}}, 29 ~{{PCS3}}, 30 ~{{PCS4}}, 31 ~{{PCS5}/A1}, 32 ~{{PCS6}/A2}, 33 ~{{LCS}}, 34 ~{{UCS}}, 35 ~{{MCS3}/}{NPS}, 36 ~{{MCS2}}, 37 ~{{MCS1}/}{ERROR}, 38 ~{{MCS0}/PEREQ}, 39 ~{{DEN}}, 40 DT/~{{R}}, 41 INT3/~{{INTA1}}, 42 INT2/~{{INTA0}}, 43 VCC, 44 INT1, 45 INT0, 46 NMI, 47 ~{{TEST}/BUSY}, 48 ~{{LOCK}}, 49 SRDY, 50 HOLD, 51 HLDA, 52 ~{{S0}}, 53 ~{{S1}}, 54 ~{{S2}}, 55 ARDY, 56 CLKOUT, 57 RESET, 58 X2, 59 X1, 60 VSS hidden, 61 ALE/QS0, 62 ~{{RD}/}{QSMD}, 63 ~{{WR}/QS1}, 64 ~{{BHE}}, 65 A19/S6, 66 A18/S5, 67 A17/S4, 68 A16/S3

## M80C186XL
designator *  value M80C186XL  Reference: U
ki_keywords: MPRO; ki_description: 16-Bit High-Integration Embedded Processor; ki_fp_filters: PLCC* PGA*Layout11x11*P2.54mm* LCC*; Datasheet: http://datasheets.chipdb.org/Intel/x86/8018x/datashts/80186/27127602.pdf
pins: 1 AD15, 2 AD7, 3 AD14, 4 AD6, 5 AD13, 6 AD5, 7 AD12, 8 AD4, 9 VCC, 10 AD11, 11 AD3, 12 AD10, 13 AD2, 14 AD9, 15 AD1, 16 AD8, 17 AD0, 18 DRQ0, 19 DRQ1, 20 TMR_IN_0, 21 TMR_IN_1, 22 TMR_OUT_0, 23 TMR_OUT_1, 24 ~{{RES}}, 25 ~{{PCS0}}, 26 VSS, 27 ~{{PCS1}}, 28 ~{{PCS2}}, 29 ~{{PCS3}}, 30 ~{{PCS4}}, 31 ~{{PCS5}/A1}, 32 ~{{PCS6}/A2}, 33 ~{{LCS}}, 34 ~{{UCS}}, 35 ~{{MCS3}/}{NPS}, 36 ~{{MCS2}}, 37 ~{{MCS1}/}{ERROR}, 38 ~{{MCS0}/PEREQ}, 39 ~{{DEN}}, 40 DT/~{{R}}, 41 INT3/~{{INTA1}/IRQ}, 42 INT2/~{{INTA0}}, 43 VCC, 44 INT1/~{{SELECT}}, 45 INT0, 46 NMI, 47 ~{{TEST}/BUSY}, 48 ~{{LOCK}}, 49 SRDY, 50 HOLD, 51 HLDA, 52 ~{{S0}}, 53 ~{{S1}}, 54 ~{{S2}}, 55 ARDY, 56 CLKOUT, 57 RESET, 58 X2, 59 X1, 60 VSS hidden, 61 ALE/QS0, 62 ~{{RD}/}{QSMD}, 63 ~{{WR}/QS1}, 64 ~{{BHE}}, 65 A19/S6, 66 A18/S5, 67 A17/S4, 68 A16/S3